# EAGLE library part SPV1040 (library CougsInSpace-IC-Power)
Solar Battery Charger with MPPT SPV1040 <https://github.com/CougsInSpace/Resources/blob/master/SupplierDocuments/ST/SPV1040.pdf>
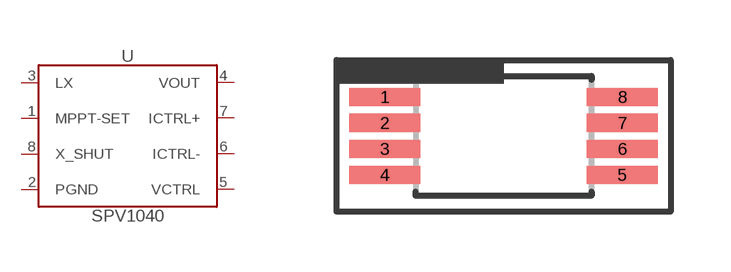
[diagram p0: symbol with the pads of TSSOP8; footprint TSSOP8]

Designator prefix U

## SPV1040 (SKU: 60-0001; VALUE: SPV1040)  [TSSOP8]
1  MPPT-SET  in
2  PGND  pwr
3  LX  in
4  VOUT  out
5  VCTRL  in
6  ICTRL-  in
7  ICTRL+  in
8  X_SHUT  in

## Footprint TSSOP8 (pad centres in mm)
Thin Shrink Small Outline Plastic (TSSOP) - 8 Pins
smd 1.78 x 0.45: 1 -2.97,0.975; 2 -2.97,0.325; 3 -2.97,-0.325; 4 -2.97,-0.975; 5 2.97,-0.975; 6 2.97,-0.325; 7 2.97,0.325; 8 2.97,0.975